# EAGLE library part N_MOS_2CH (library Eagle_CAD_parts)
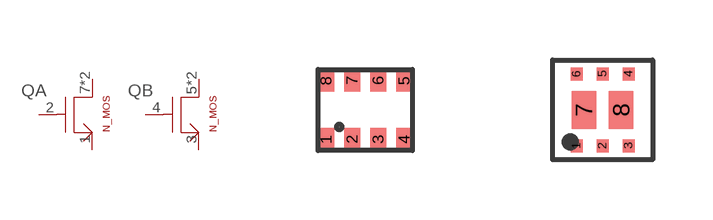
[diagram p46: symbol with the pads of 1206-8_CHIP_FET; footprints 1206-8_CHIP_FET, SC70-6L_DUAL]

Designator prefix Q; gates A=N_MOS B=N_MOS

## N_MOS_2CH_SI5902BDC (DIGIKEY_PART_NUMBER: SI5902BDC-T1-E3CT-ND; ID: 4 A; MANUFACTURER_PART_NUMBER: SI5902BDC-T1-E3; VDS: 30 V; VGS_TH: 1.5 V - 3 V)  [1206-8_CHIP_FET]
1  A:S  pas
2  A:G  pas
3  B:S  pas
4  B:G  pas
5  B:D  pas
6  B:D  pas
7  A:D  pas
8  A:D  pas

## N_MOS_2CH_SIA928DJ (DIGIKEY_PART_NUMBER: SIA928DJ-T1-GE3CT-ND; ID: 4.5 A; MANUFACTURER_PART_NUMBER: SIA928DJ-T1-GE3; P_MAX: 7.8 W; VDSS: 30 V; VGS_TH: 1.2 V ~ 2.2 V)  [SC70-6L_DUAL]
1  A:S  pas
2  A:G  pas
3  B:D  pas
4  B:S  pas
5  B:G  pas
6  A:D  pas
7  A:D  pas
8  B:D  pas

## N_MOS_2CH_SI5922DU (DIGIKEY_PART_NUMBER: SI5922DU-T1-GE3CT-ND; ID: 6 A; MANUFACTURER_PART_NUMBER: SI5922DU-T1-GE3; VDS: 30 V; VGS_TH: 1.2 V ~ 2.2 V)  [POWERPAK_CHIPFET_DUAL]
1  A:S  pas
2  A:G  pas
3  B:S  pas
4  B:G  pas
5  B:D  pas
6  A:D  pas

## N_MOS_2CH_DMN3035LWN (DIGIKEY_PART_NUMBER: DMN3035LWN-7DICT-ND; ID: 5.5 A; MANUFACTURER_PART_NUMBER: DMN3035LWN-7; P_MAX: 770 mW; VDSS: 30 V; VGS_TH: 1.0 V ~ 2.0 V)  [V-DFN3020-8]
1  A:S  pas
2  A:G  pas
3  B:S  pas
4  B:G  pas
D1  A:D  pas
D2  B:D  pas

## N_MOS_2CH_SSM6N815R (DIGIKEY_PART_NUMBER: SSM6N815RLFCT-ND; ID: 2 A; MANUFACTURER_PART_NUMBER: SSM6N815R,LF; P_MAX: 1.8 W; VDSS: 100 V; VGS_TH: 1.5 V ~ 2.5 V)  [TSOP-6F]
1  A:S  pas
2  A:G  pas
3  B:D  pas
4  B:S  pas
5  B:G  pas
6  A:D  pas

## N_MOS_2CH_2N7002PV (DIGIKEY_PART_NUMBER: 1727-4792-1-ND; ID: 350 mA; MANUFACTURER_PART_NUMBER: 2N7002PV,115; P_MAX: 330 mW; VDSS: 60 V; VGS_TH: 1.1 V ~ 2.4 V)  [SOT-666]
Pads as for TSOP-6F

## N_MOS_2CH_NTHD4508N (DIGIKEY_PART_NUMBER: NTHD4508NT1GOSCT-ND; ID: 3 A; MANUFACTURER_PART_NUMBER: NTHD4508NT1G; VDS: 20 V; VGS_TH: 0.6 V - 1.2 V)  [1206-8_CHIP_FET]
Pads as for 1206-8_CHIP_FET

## N_MOS_2CH_NX3020NAKV (DIGIKEY_PART_NUMBER: 1727-1287-1-ND; ID: 200 mA; MANUFACTURER_PART_NUMBER: NX3020NAKV,115; P_MAX: 375 mW; VDS: 30 V; VGS_TH: 0.8 V ~ 1.5 V)  [SOT-666]
Pads as for TSOP-6F

## N_MOS_2CH_CMLDM7003TG (DIGIKEY_PART_NUMBER: CMLDM7003TCT-ND; ID: 280 mA; MANUFACTURER_PART_NUMBER: CMLDM7003T TR; P_MAX: 350 mW; VDS: 50 V; VGS_TH: 0.7V ~ 1.2V)  [SOT563]
1  A:G  pas
2  A:S  pas
3  B:D  pas
4  B:G  pas
5  B:S  pas
6  A:D  pas

## N_MOS_2CH_SI5936DU (DIGIKEY_PART_NUMBER: SI5936DU-T1-GE3CT-ND; ID: 6 A; MANUFACTURER_PART_NUMBER: SI5936DU-T1-GE3; VDS: 30V; VGS_TH: 1.2V ~ 2.2V)  [POWERPAK_CHIPFET_DUAL]
Pads as for POWERPAK_CHIPFET_DUAL

## Footprint 1206-8_CHIP_FET (pad centres in mm)
smd 0.406 x 0.559: 1 -0.975,-0.736; 2 -0.326,-0.736; 3 0.325,-0.737; 4 0.975,-0.737; 5 0.974,0.735; 6 0.325,0.735; 7 -0.327,0.736; 8 -0.976,0.736

## Footprint SC70-6L_DUAL (pad centres in mm)
smd 0.3 x 0.325: 1 -0.65,-0.9; 2 0,-0.9; 3 0.65,-0.9; 4 0.65,0.9; 5 0,0.9; 6 -0.65,0.9
smd 0.613 x 0.95: 7 -0.467,0; 8 0.467,0

## Footprint POWERPAK_CHIPFET_DUAL (pad centres in mm)
smd 0.3 x 0.35: 1 -0.98,-0.775; 2 -0.33,-0.775; 3 0.33,-0.775; 4 0.98,-0.775
smd 1.175 x 1.05: 5 0.762,0.23; 6 -0.762,0.23

## Footprint V-DFN3020-8 (pad centres in mm)
smd 0.39 x 0.52: 1 -0.975,-0.89; 2 -0.325,-0.89; 3 0.325,-0.89; 4 0.975,-0.89
smd 1.04 x 0.9: D1 -0.65,0.4; D2 0.65,0.4

## Footprint TSOP-6F (pad centres in mm)
smd 0.62 x 0.7: 1 -0.95,-1.25; 2 0,-1.25; 3 0.95,-1.25; 4 0.95,1.25; 5 0,1.25; 6 -0.95,1.25

## Footprint SOT-666 (pad centres in mm)
smd 0.5 x 0.375: 1 -0.85,0.537; 3 -0.85,-0.537; 4 0.85,-0.537; 6 0.85,0.537
smd 0.65 x 0.375: 2 -0.93,0; 5 0.93,0

## Footprint SOT563 (pad centres in mm)
smd 0.3 x 0.67: 1 -0.5,-0.635; 2 0,-0.635; 3 0.5,-0.635; 4 0.5,0.635; 5 0,0.635; 6 -0.5,0.635